# Altium schematic symbol library PCIe-M2.SchLib: 10 symbols
Pins are listed as number, name and electrical type; pins without a type are passive.

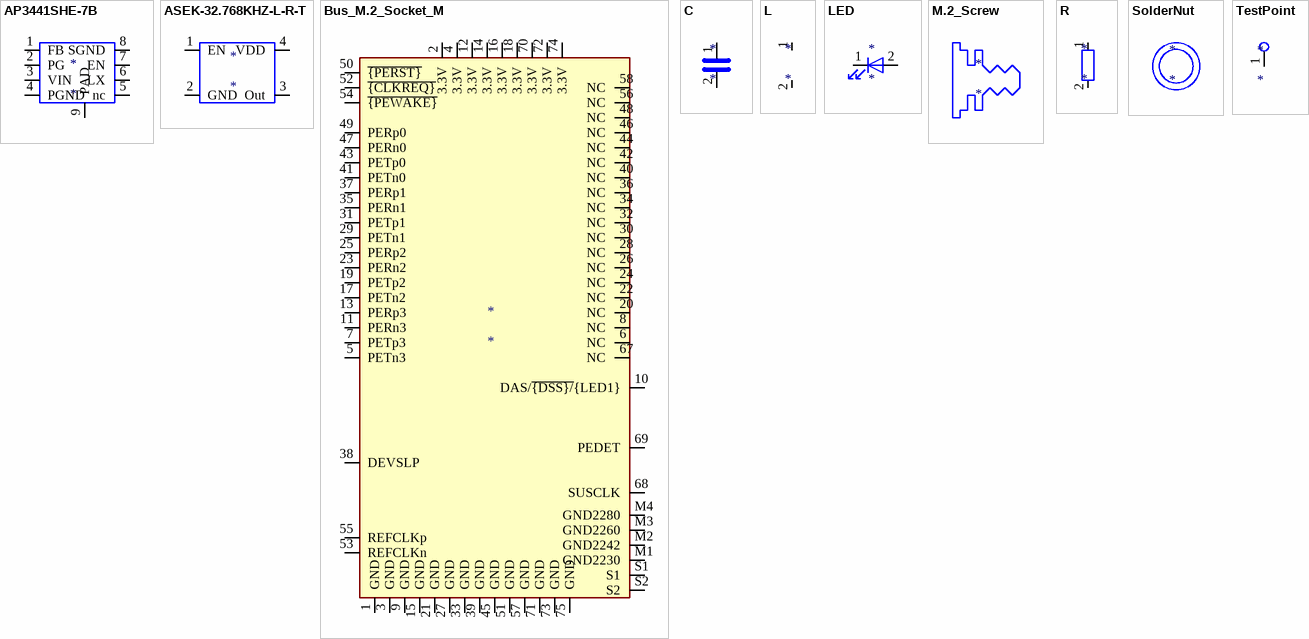
[diagram p0: symbols AP3441SHE-7B to TestPoint]

## AP3441SHE-7B
designator *
pins: 1 FB, 2 PG, 3 VIN, 4 PGND, 5 nc, 6 LX, 7 EN, 8 SGND, 9 PAD

## ASEK-32.768KHZ-L-R-T
designator *
pins: 1 EN, 2 GND, 3 Out, 4 VDD

## Bus_M.2_Socket_M
designator *
pins: 1 GND, 2 3.3V, 3 GND, 4 3.3V, 5 PETn3, 6 NC, 7 PETp3, 8 NC, 9 GND, 10 DAS/~{{DSS}/}{LED1}, 11 PERn3, 12 3.3V, 13 PERp3, 14 3.3V, 15 GND, 16 3.3V, 17 PETn2, 18 3.3V, 19 PETp2, 20 NC, 21 GND, 22 NC, 23 PERn2, 24 NC, 25 PERp2, 26 NC, 27 GND, 28 NC, 29 PETn1, 30 NC, 31 PETp1, 32 NC, 33 GND, 34 NC, 35 PERn1, 36 NC, 37 PERp1, 38 DEVSLP, 39 GND, 40 NC, 41 PETn0, 42 NC, 43 PETp0, 44 NC, 45 GND, 46 NC, 47 PERn0, 48 NC, 49 PERp0, 50 ~{{PERST}}, 51 GND, 52 ~{{CLKREQ}}, 53 REFCLKn, 54 ~{{PEWAKE}}, 55 REFCLKp, 56 NC, 57 GND, 58 NC, 67 NC, 68 SUSCLK, 69 PEDET, 70 3.3V, 71 GND, 72 3.3V, 73 GND, 74 3.3V, 75 GND, M1 GND2230, M2 GND2242, M3 GND2260, M4 GND2280, S1, S2

## C
designator *
pins: 1, 2

## L
designator *
pins: 1, 2

## LED
designator *
pins: 1 K, 2 A

## M.2_Screw
designator *

## R
designator *
pins: 1, 2

## SolderNut
designator *

## TestPoint
designator *
pins: 1